# Altium footprint library 617291011BLF.PcbLib: 1 footprints
Each footprint in its own frame and in the unit in brackets; x right, y up, seen from the top. Pads: shape width x height; smd on the part's side, far side on the other; paste and mask are expansions set on the pad; w line width, h text height; cw(c..) or ccw(c..) is an arc to the next point about the centre after c.
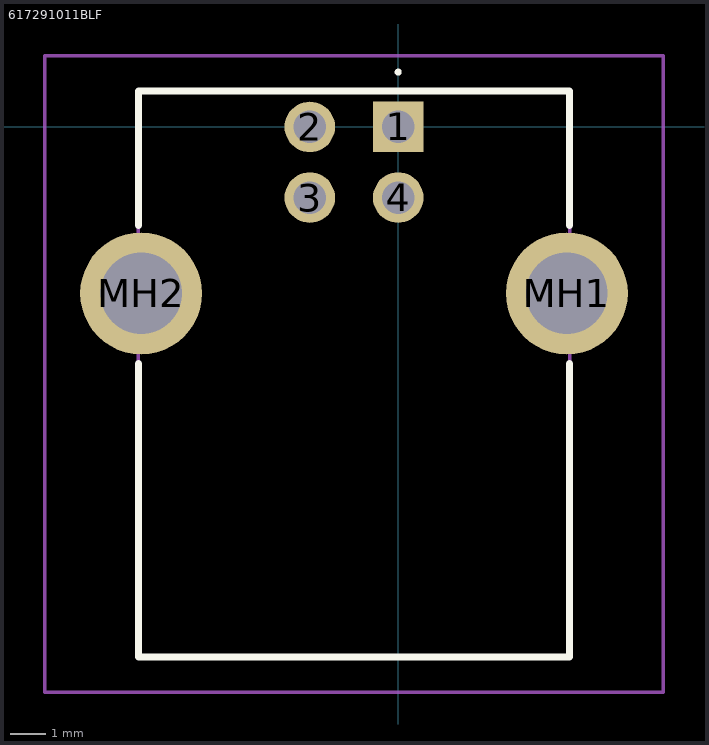
[diagram p0: the footprint, top view; thin cyan lines are the x and y axes]

## 617291011BLF [mm]
pads (6):
  rect 1.431x1.431 hole 0.92: 1(0,0)
  round 1.431 hole 0.92: 2(-2.5,0) 3(-2.5,-2) 4(0,-2)
  round 3.45 hole 2.3: MH1(4.77,-4.71) MH2(-7.27,-4.71)
Top Overlay:
  lines w0.1: 0,1.5 0,1.5 ; 0,1.5 ccw(c0,1.55) 0,1.6 ; 0,1.5 cw(c0,1.55) 0,1.6 ; 0,1.6 0,1.6
  lines w0.2: -7.35,-6.69 -7.35,-14.99 4.85,-14.99 4.85,-6.69 ; -7.35,-2.79 -7.35,1.01 4.85,1.01 4.85,-2.79
Mechanical 15:
  lines w0.1: -7.35,-14.99 4.85,-14.99 4.85,1.01 -7.35,1.01 -7.35,-14.99
Mechanical 20:
  lines w0.1: -9.995,-15.99 7.495,-15.99 7.495,2.01 -9.995,2.01 -9.995,-15.99
3D body "61729-1011BLF.stp": height 5.8, standoff -4.65, extent -10,-3.376 10,3.376